# Altium schematic symbol library SCH - MCU - STM32 - ST MICROELECTRONICS STM32F101Z(C-D-E)TX LQFP144.SchLib: 1 symbol
Pins are listed as number, name and electrical type; pins without a type are passive.

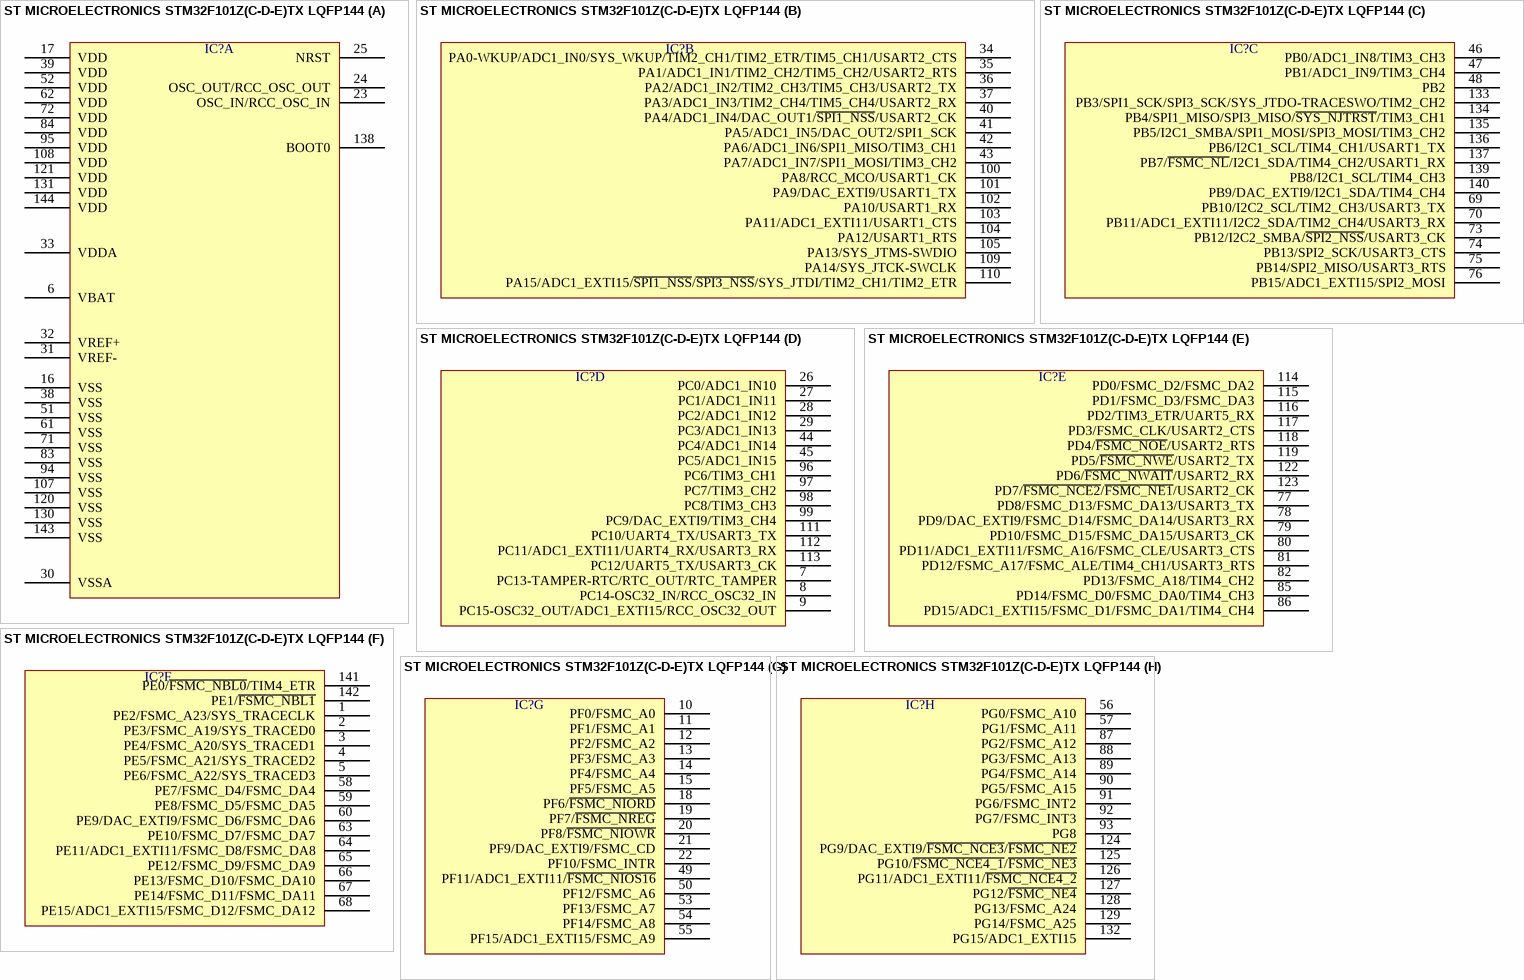
[diagram p0: symbol ST MICROELECTRONICS STM32F101Z(C-D-E)TX LQFP144]

## ST MICROELECTRONICS STM32F101Z(C-D-E)TX LQFP144
designator IC?  (value not drawn)
part A pins: 6 VBAT, 16 VSS, 17 VDD, 23 OSC_IN/RCC_OSC_IN, 24 OSC_OUT/RCC_OSC_OUT, 25 NRST, 30 VSSA, 31 VREF-, 32 VREF+, 33 VDDA, 38 VSS, 39 VDD, 51 VSS, 52 VDD, 61 VSS, 62 VDD, 71 VSS, 72 VDD, 83 VSS, 84 VDD, 94 VSS, 95 VDD, 107 VSS, 108 VDD, 120 VSS, 121 VDD, 130 VSS, 131 VDD, 138 BOOT0, 143 VSS, 144 VDD
part B pins: 34 PA0-WKUP/ADC1_IN0/SYS_WKUP/TIM2_CH1/TIM2_ETR/TIM5_CH1/USART2_CTS, 35 PA1/ADC1_IN1/TIM2_CH2/TIM5_CH2/USART2_RTS, 36 PA2/ADC1_IN2/TIM2_CH3/TIM5_CH3/USART2_TX, 37 PA3/ADC1_IN3/TIM2_CH4/TIM5_CH4/USART2_RX, 40 PA4/ADC1_IN4/DAC_OUT1/~{SPI1_NSS}/USART2_CK, 41 PA5/ADC1_IN5/DAC_OUT2/SPI1_SCK, 42 PA6/ADC1_IN6/SPI1_MISO/TIM3_CH1, 43 PA7/ADC1_IN7/SPI1_MOSI/TIM3_CH2, 100 PA8/RCC_MCO/USART1_CK, 101 PA9/DAC_EXTI9/USART1_TX, 102 PA10/USART1_RX, 103 PA11/ADC1_EXTI11/USART1_CTS, 104 PA12/USART1_RTS, 105 PA13/SYS_JTMS-SWDIO, 109 PA14/SYS_JTCK-SWCLK, 110 PA15/ADC1_EXTI15/~{SPI1_NSS}/~{SPI3_NSS}/SYS_JTDI/TIM2_CH1/TIM2_ETR
part C pins: 46 PB0/ADC1_IN8/TIM3_CH3, 47 PB1/ADC1_IN9/TIM3_CH4, 48 PB2, 69 PB10/I2C2_SCL/TIM2_CH3/USART3_TX, 70 PB11/ADC1_EXTI11/I2C2_SDA/TIM2_CH4/USART3_RX, 73 PB12/I2C2_SMBA/~{SPI2_NSS}/USART3_CK, 74 PB13/SPI2_SCK/USART3_CTS, 75 PB14/SPI2_MISO/USART3_RTS, 76 PB15/ADC1_EXTI15/SPI2_MOSI, 133 PB3/SPI1_SCK/SPI3_SCK/SYS_JTDO-TRACESWO/TIM2_CH2, 134 PB4/SPI1_MISO/SPI3_MISO/~{SYS_NJTRST}/TIM3_CH1, 135 PB5/I2C1_SMBA/SPI1_MOSI/SPI3_MOSI/TIM3_CH2, 136 PB6/I2C1_SCL/TIM4_CH1/USART1_TX, 137 PB7/~{FSMC_NL}/I2C1_SDA/TIM4_CH2/USART1_RX, 139 PB8/I2C1_SCL/TIM4_CH3, 140 PB9/DAC_EXTI9/I2C1_SDA/TIM4_CH4
part D pins: 7 PC13-TAMPER-RTC/RTC_OUT/RTC_TAMPER, 8 PC14-OSC32_IN/RCC_OSC32_IN, 9 PC15-OSC32_OUT/ADC1_EXTI15/RCC_OSC32_OUT, 26 PC0/ADC1_IN10, 27 PC1/ADC1_IN11, 28 PC2/ADC1_IN12, 29 PC3/ADC1_IN13, 44 PC4/ADC1_IN14, 45 PC5/ADC1_IN15, 96 PC6/TIM3_CH1, 97 PC7/TIM3_CH2, 98 PC8/TIM3_CH3, 99 PC9/DAC_EXTI9/TIM3_CH4, 111 PC10/UART4_TX/USART3_TX, 112 PC11/ADC1_EXTI11/UART4_RX/USART3_RX, 113 PC12/UART5_TX/USART3_CK
part E pins: 77 PD8/FSMC_D13/FSMC_DA13/USART3_TX, 78 PD9/DAC_EXTI9/FSMC_D14/FSMC_DA14/USART3_RX, 79 PD10/FSMC_D15/FSMC_DA15/USART3_CK, 80 PD11/ADC1_EXTI11/FSMC_A16/FSMC_CLE/USART3_CTS, 81 PD12/FSMC_A17/FSMC_ALE/TIM4_CH1/USART3_RTS, 82 PD13/FSMC_A18/TIM4_CH2, 85 PD14/FSMC_D0/FSMC_DA0/TIM4_CH3, 86 PD15/ADC1_EXTI15/FSMC_D1/FSMC_DA1/TIM4_CH4, 114 PD0/FSMC_D2/FSMC_DA2, 115 PD1/FSMC_D3/FSMC_DA3, 116 PD2/TIM3_ETR/UART5_RX, 117 PD3/FSMC_CLK/USART2_CTS, 118 PD4/~{FSMC_NOE}/USART2_RTS, 119 PD5/~{FSMC_NWE}/USART2_TX, 122 PD6/~{FSMC_NWAIT}/USART2_RX, 123 PD7/~{FSMC_NCE2}/~{FSMC_NE1}/USART2_CK
part F pins: 1 PE2/FSMC_A23/SYS_TRACECLK, 2 PE3/FSMC_A19/SYS_TRACED0, 3 PE4/FSMC_A20/SYS_TRACED1, 4 PE5/FSMC_A21/SYS_TRACED2, 5 PE6/FSMC_A22/SYS_TRACED3, 58 PE7/FSMC_D4/FSMC_DA4, 59 PE8/FSMC_D5/FSMC_DA5, 60 PE9/DAC_EXTI9/FSMC_D6/FSMC_DA6, 63 PE10/FSMC_D7/FSMC_DA7, 64 PE11/ADC1_EXTI11/FSMC_D8/FSMC_DA8, 65 PE12/FSMC_D9/FSMC_DA9, 66 PE13/FSMC_D10/FSMC_DA10, 67 PE14/FSMC_D11/FSMC_DA11, 68 PE15/ADC1_EXTI15/FSMC_D12/FSMC_DA12, 141 PE0/~{FSMC_NBL0}/TIM4_ETR, 142 PE1/~{FSMC_NBL1}
part G pins: 10 PF0/FSMC_A0, 11 PF1/FSMC_A1, 12 PF2/FSMC_A2, 13 PF3/FSMC_A3, 14 PF4/FSMC_A4, 15 PF5/FSMC_A5, 18 PF6/~{FSMC_NIORD}, 19 PF7/~{FSMC_NREG}, 20 PF8/~{FSMC_NIOWR}, 21 PF9/DAC_EXTI9/FSMC_CD, 22 PF10/FSMC_INTR, 49 PF11/ADC1_EXTI11/~{FSMC_NIOS16}, 50 PF12/FSMC_A6, 53 PF13/FSMC_A7, 54 PF14/FSMC_A8, 55 PF15/ADC1_EXTI15/FSMC_A9
part H pins: 56 PG0/FSMC_A10, 57 PG1/FSMC_A11, 87 PG2/FSMC_A12, 88 PG3/FSMC_A13, 89 PG4/FSMC_A14, 90 PG5/FSMC_A15, 91 PG6/FSMC_INT2, 92 PG7/FSMC_INT3, 93 PG8, 124 PG9/DAC_EXTI9/~{FSMC_NCE3}/~{FSMC_NE2}, 125 PG10/~{FSMC_NCE4_1}/~{FSMC_NE3}, 126 PG11/ADC1_EXTI11/~{FSMC_NCE4_2}, 127 PG12/~{FSMC_NE4}, 128 PG13/FSMC_A24, 129 PG14/FSMC_A25, 132 PG15/ADC1_EXTI15